# Altium footprint library WIFI PCB MT7620N RIGTH.PcbLib: 1 footprints
Each footprint in its own frame and in the unit in brackets; x right, y up, seen from the top. Pads: shape width x height; smd on the part's side, far side on the other; paste and mask are expansions set on the pad; w line width, h text height; cw(c..) or ccw(c..) is an arc to the next point about the centre after c.
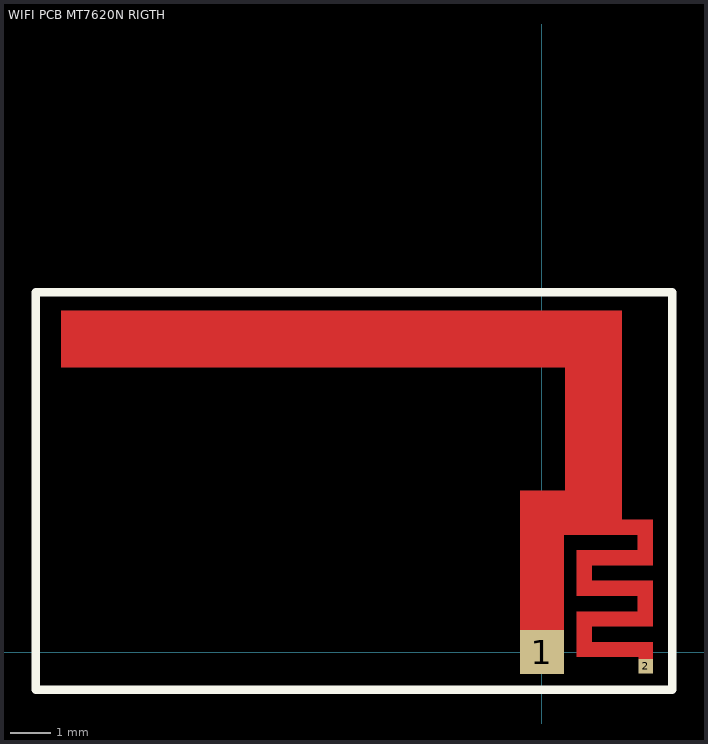
[diagram p0: the footprint, top view; thin cyan lines are the x and y axes]

## WIFI PCB MT7620N RIGTH [mil]
pads (2):
  rect 43x43 smd mask+2: 1(0,0)
  rect 14x14 smd mask+2: 2(102,-14)
Top Layer:
  region: 21.65,158 -21.65,158 -21.65,-10 21.65,-10
  region: 78.74,115.09 78.74,158.4 -21.65,158.4 -21.65,115.09
  rectangle: 22.64,115.09 78.74,335.57
  region: -472.44,335.57 -472.44,279.46 78.74,279.46 78.74,335.57
  rectangle: 93.99,25 108.99,70
  region: 33.99,40 33.99,25 108.99,25 108.99,40
  region: 33.99,70 33.99,55 108.99,55 108.99,70
  region: 48.99,100 33.99,100 33.99,55 48.99,55
  region: 33.99,100 33.99,85 108.99,85 108.99,100
  rectangle: 93.99,85 108.99,130
  region: 33.99,10 33.99,-5 108.99,-5 108.99,10
  region: 48.99,40 33.99,40 33.99,-5 48.99,-5
  region: 33.99,130 33.99,115 108.99,115 108.99,130
  region: 108.99,10 94.99,10 94.99,-7 108.99,-7
Top Overlay:
  lines w8: -497.05,-37 127.95,-37 127.95,353.35 -497.05,353.35 -497.05,-37
Top Solder:
  region: 110.99,11 92.99,11 92.99,-23 110.99,-23
  region: 110.99,11 32.99,11 32.99,-6 110.99,-6
  region: 49.99,41 32.99,41 32.99,-6 49.99,-6
  region: 109.99,41 32.99,41 32.99,24 109.99,24
  region: 109.99,71 92.99,71 92.99,24 109.99,24
  region: 109.99,71 32.99,71 32.99,54 109.99,54
  region: 49.99,101 32.99,101 32.99,54 49.99,54
  region: 109.99,101 32.99,101 32.99,84 109.99,84
  region: 109.99,131 92.99,131 92.99,84 109.99,84
  region: 109.99,131 71.99,131 71.99,114 109.99,114
  region: 23.99,160 -23.01,160 -23.01,-24 23.99,-24
  region: 79.99,160 -23.01,160 -23.01,114 79.99,114
  region: 79.99,336 21.99,336 21.99,114 79.99,114
  region: 79.99,337 -474.01,337 -474.01,278 79.99,278